# EAGLE library part FEATHER (library Module)
Adafruit Feather Form Factor.
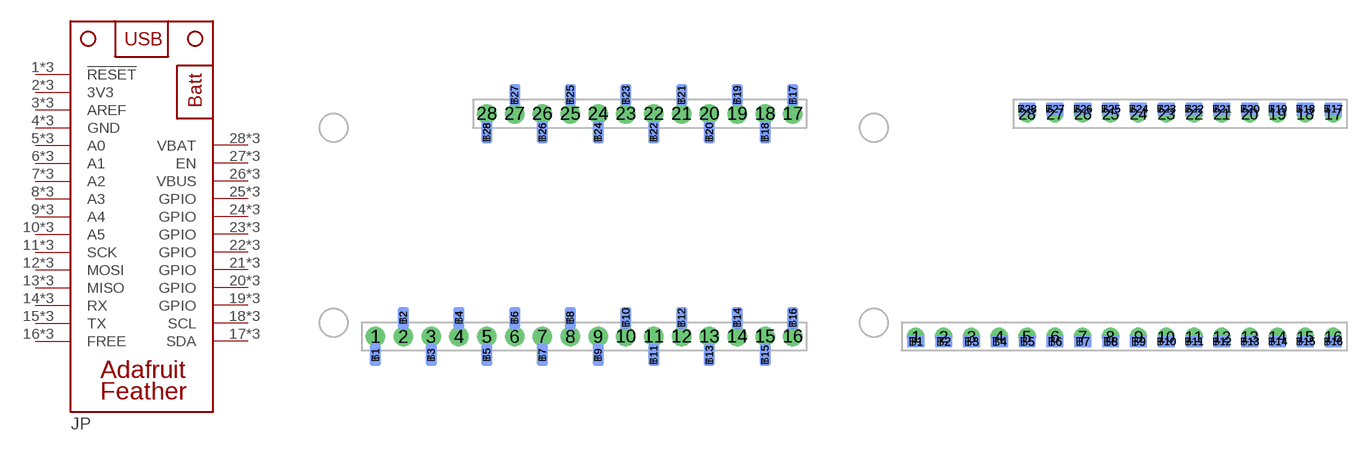
[diagram p19: symbol with the pads of FEATHER-HYBRID; footprints FEATHER-HYBRID, FEATHER-TH]

Designator prefix JP

## FEATHER_(HYBRID)  [FEATHER-HYBRID]
1  !RESET
2  3V3
3  AREF
4  GND
5  A0
6  A1
7  A2
8  A3
9  A4
10  A5
11  SCK
12  MOSI
13  MISO
14  RX
15  TX
16  FREE
17  SDA
18  SCL
19  GPIO
20  GPIO
21  GPIO
22  GPIO
23  GPIO
24  GPIO
25  GPIO
26  VBUS
27  EN
28  VBAT
B1  !RESET
B2  3V3
B3  AREF
B4  GND
B5  A0
B6  A1
B7  A2
B8  A3
B9  A4
B10  A5
B11  SCK
B12  MOSI
B13  MISO
B14  RX
B15  TX
B16  FREE
B17  SDA
B18  SCL
B19  GPIO
B20  GPIO
B21  GPIO
B22  GPIO
B23  GPIO
B24  GPIO
B25  GPIO
B26  VBUS
B27  EN
B28  VBAT
T1  !RESET
T2  3V3
T3  AREF
T4  GND
T5  A0
T6  A1
T7  A2
T8  A3
T9  A4
T10  A5
T11  SCK
T12  MOSI
T13  MISO
T14  RX
T15  TX
T16  FREE
T17  SDA
T18  SCL
T19  GPIO
T20  GPIO
T21  GPIO
T22  GPIO
T23  GPIO
T24  GPIO
T25  GPIO
T26  VBUS
T27  EN
T28  VBAT

## FEATHER_(TH)  [FEATHER-TH]
Pads as for FEATHER-HYBRID

## Footprint FEATHER-HYBRID (pad centres in mm)
Adafruit Feather Form Factor. Hybrid SMD and TH Pin Header.
drill 1 pad 1.778: 1 6.35,0; 2 8.89,0; 3 11.43,0; 4 13.97,0; 5 16.51,0; 6 19.05,0; 7 21.59,0; 8 24.13,0; 9 26.67,0; 10 29.21,0; 11 31.75,0; 12 34.29,0; 13 36.83,0; 14 39.37,0; 15 41.91,0; 16 44.45,0; 17 44.45,20.32; 18 41.91,20.32; 19 39.37,20.32; 20 36.83,20.32; 21 34.29,20.32; 22 31.75,20.32; 23 29.21,20.32; 24 26.67,20.32; 25 24.13,20.32; 26 21.59,20.32; 27 19.05,20.32; 28 16.51,20.32
smd 1 x 2 bottom: B1 6.35,-1.7; B2 8.89,1.7; B3 11.43,-1.7; B4 13.97,1.7; B5 16.51,-1.7; B6 19.05,1.7; B7 21.59,-1.7; B8 24.13,1.7; B9 26.67,-1.7; B10 29.21,1.7; B11 31.75,-1.7; B12 34.29,1.7; B13 36.83,-1.7; B14 39.37,1.7; B15 41.91,-1.7; B16 44.45,1.7; B17 44.45,22.02; B18 41.91,18.62; B19 39.37,22.02; B20 36.83,18.62; B21 34.29,22.02; B22 31.75,18.62; B23 29.21,22.02; B24 26.67,18.62; B25 24.13,22.02; B26 21.59,18.62; B27 19.05,22.02; B28 16.51,18.62
smd 1 x 2: T1 6.35,-1.7; T2 8.89,1.7; T3 11.43,-1.7; T4 13.97,1.7; T5 16.51,-1.7; T6 19.05,1.7; T7 21.59,-1.7; T8 24.13,1.7; T9 26.67,-1.7; T10 29.21,1.7; T11 31.75,-1.7; T12 34.29,1.7; T13 36.83,-1.7; T14 39.37,1.7; T15 41.91,-1.7; T16 44.45,1.7; T17 44.45,22.02; T18 41.91,18.62; T19 39.37,22.02; T20 36.83,18.62; T21 34.29,22.02; T22 31.75,18.62; T23 29.21,22.02; T24 26.67,18.62; T25 24.13,22.02; T26 21.59,18.62; T27 19.05,22.02; T28 16.51,18.62

## Footprint FEATHER-TH (pad centres in mm)
Adafruit Feather Form Factor. Through Hole Pin Header.
drill 1 pad 1.575: 1 6.35,0; 2 8.89,0; 3 11.43,0; 4 13.97,0; 5 16.51,0; 6 19.05,0; 7 21.59,0; 8 24.13,0; 9 26.67,0; 10 29.21,0; 11 31.75,0; 12 34.29,0; 13 36.83,0; 14 39.37,0; 15 41.91,0; 16 44.45,0; 17 44.45,20.32; 18 41.91,20.32; 19 39.37,20.32; 20 36.83,20.32; 21 34.29,20.32; 22 31.75,20.32; 23 29.21,20.32; 24 26.67,20.32; 25 24.13,20.32; 26 21.59,20.32; 27 19.05,20.32; 28 16.51,20.32
smd 1.575 x 1.118 bottom: B1 6.35,-0.457; B2 8.89,-0.457; B3 11.43,-0.457; B4 13.97,-0.457; B5 16.51,-0.457; B6 19.05,-0.457; B7 21.59,-0.457; B8 24.13,-0.457; B9 26.67,-0.457; B10 29.21,-0.457; B11 31.75,-0.457; B12 34.29,-0.457; B13 36.83,-0.457; B14 39.37,-0.457; B15 41.91,-0.457; B16 44.45,-0.457; B17 44.45,20.777; B18 41.91,20.777; B19 39.37,20.777; B20 36.83,20.777; B21 34.29,20.777; B22 31.75,20.777; B23 29.21,20.777; B24 26.67,20.777; B25 24.13,20.777; B26 21.59,20.777; B27 19.05,20.777; B28 16.51,20.777
smd 1.575 x 1.118: T1 6.35,-0.457; T2 8.89,-0.457; T3 11.43,-0.457; T4 13.97,-0.457; T5 16.51,-0.457; T6 19.05,-0.457; T7 21.59,-0.457; T8 24.13,-0.457; T9 26.67,-0.457; T10 29.21,-0.457; T11 31.75,-0.457; T12 34.29,-0.457; T13 36.83,-0.457; T14 39.37,-0.457; T15 41.91,-0.457; T16 44.45,-0.457; T17 44.45,20.777; T18 41.91,20.777; T19 39.37,20.777; T20 36.83,20.777; T21 34.29,20.777; T22 31.75,20.777; T23 29.21,20.777; T24 26.67,20.777; T25 24.13,20.777; T26 21.59,20.777; T27 19.05,20.777; T28 16.51,20.777